# Altium schematic symbol library separador.SchLib: 1 symbol
Pins are listed as number, name and electrical type; pins without a type are passive.

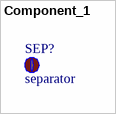
[diagram p0: symbol Component_1]

## Component_1
designator SEP?, comment separator
LCBSBM-8-01A2
footprint hole (LCBSBM-8-01A2)